# Altium footprint library Diode.PcbLib: 3 footprints
Each footprint in its own frame and in the unit in brackets; x right, y up, seen from the top. Pads: shape width x height; smd on the part's side, far side on the other; paste and mask are expansions set on the pad; w line width, h text height; cw(c..) or ccw(c..) is an arc to the next point about the centre after c.
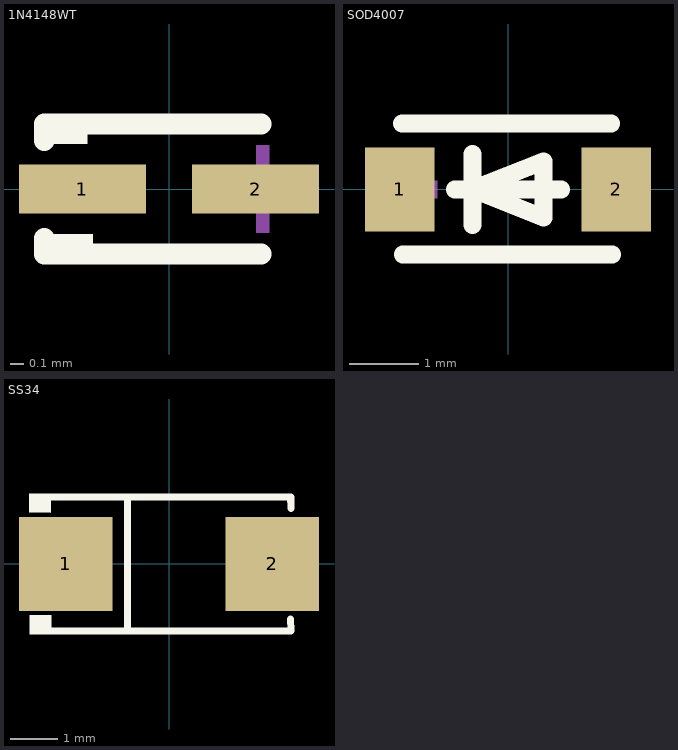
[diagram p0: the footprints below, top view; thin cyan lines are the x and y axes]

## 1N4148WT [mm]
pads (2):
  rect 0.93x0.36 smd paste+0 mask+0.051: 1(-0.635,0) 2(0.635,0)
Top Overlay:
  region: -0.6,0.552 -0.6,0.332 -0.905,0.332 -0.905,0.552
  region: -0.56,-0.552 -0.56,-0.332 -0.864,-0.332 -0.864,-0.552
  lines w0.152: -0.914,-0.363 -0.914,-0.476 -0.676,-0.476 0.676,-0.476 ; -0.914,0.356 -0.914,0.476 -0.676,0.476 0.676,0.476
Mechanical 15:
  region: -0.887,0.055 -0.887,-0.041 -0.503,-0.041 -0.503,0.055
  region: 0.88,0.048 0.88,-0.048 0.496,-0.048 0.496,0.048
  region: 0.736,0.32 0.736,-0.32 0.64,-0.32 0.64,0.32
3D body "SOD-523.STEP": height 0.76, standoff 0, extent -0.85,-0.45 0.85,0.45

## SOD4007 [mm]
pads (2):
  rect 1x1.2 smd paste+0 mask+0.051: 1(-1.55,0) 2(1.55,0)
Top Overlay:
  lines w0.254: -1.52,0.947 1.48,0.947 ; -1.507,-0.933 1.493,-0.933 ; -0.762,0 0.762,0 ; -0.508,-0.508 -0.508,0.508 ; -0.508,0 0.508,-0.406 0.508,0.406 -0.508,0
Mechanical 15:
  region: -1.905,0.127 -1.016,0.127 -1.016,-0.127 -1.905,-0.127
  region: 1.471,-0.436 1.471,0.453 1.725,0.453 1.725,-0.436
  region: 1.143,0.127 2.032,0.127 2.032,-0.127 1.143,-0.127
3D body "SOD-123F.step": height 1.02, standoff 0, extent -1.9,-0.9 1.9,0.9

## SS34 [mm]
pads (2):
  rect 2x2 smd paste+0 mask+0.051: 1(-2.2,0) 2(2.2,0)
Top Overlay:
  region: -2.52,1.502 -2.521,1.096 -2.981,1.1 -2.977,1.502
  region: -2.512,-1.096 -2.513,-1.503 -2.973,-1.498 -2.969,-1.096
  lines w0.152: -2.596,-1.426 2.596,-1.426 ; -2.596,1.426 2.596,1.426 2.603,1.187 ; -0.884,-1.426 -0.884,1.426 ; 2.593,-1.176 2.6,-1.415
Mechanical 15:
  region: -2.317,-0.101 -2.317,0.101 -1.507,0.101 -1.507,-0.101
  region: 2.29,-0.09 2.29,0.112 1.48,0.112 1.48,-0.09
  region: 2.014,-0.675 2.014,0.675 1.811,0.675 1.811,-0.675
3D body "SS34A.STEP": height 2.63, standoff 0, extent -2.646,-1.29 2.494,1.27